# Altium schematic symbol library CON1X10GEN.Schlib: 1 symbol
Pins are listed as number, name and electrical type; pins without a type are passive.

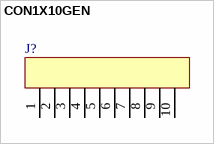
[diagram p0: symbol CON1X10GEN]

## CON1X10GEN
designator J?
pins: 1, 2, 3, 4, 5, 6, 7, 8, 9, 10